# EAGLE library part PIC-ICSP (library candrian)
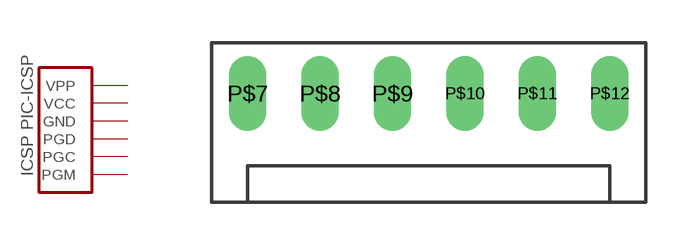
[diagram p3: symbol with the pads of PIC-ICSP; footprint PIC-ICSP]

Designator prefix ICSP

## PIC-ICSP  [PIC-ICSP]
P$7  GND
P$8  PGC
P$9  PGD
P$10  PGM
P$11  VCC
P$12  VPP

## Footprint PIC-ICSP (pad centres in mm)
drill 0.8 long: P$7 -6.35,1.27; P$8 -3.81,1.27; P$9 -1.27,1.27; P$10 1.27,1.27; P$11 3.81,1.27; P$12 6.35,1.27